# Altium schematic symbol library jlcpcb_2025_04_resistors_extended_1812.schlib: 557 symbols (part 5 of 9)
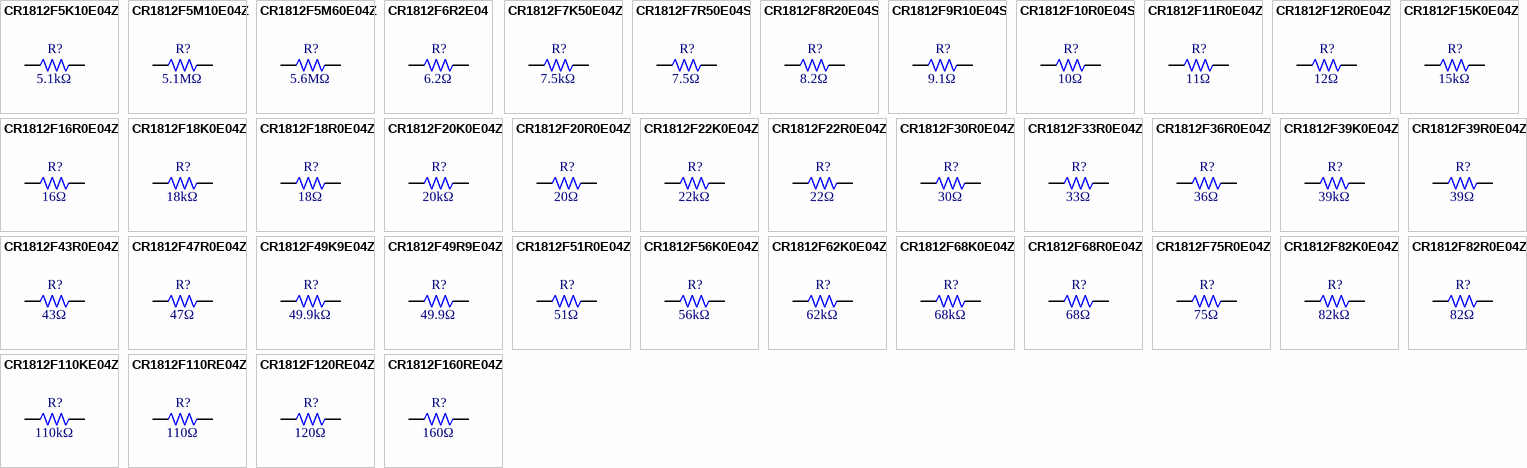
[diagram p17: symbols CR1812F5K10E04Z to CR1812F160RE04Z]

## CR1812F11R0E04Z
designator R?  Resistance: 11Ω  (hidden comment: *)
Resistor, 11Ω, ±1%, 500mW, 200V, ±100ppm/℃, -55℃~+155℃, SMD 1812; Manufacturer: Uniroyal; Manufacturer Part Number: CR1812F11R0E04Z; Supplier 1: LCSC; Supplier Part Number 1: C174698; JLCPCB Part Number: C174698; Power Rating: 500mW; Category: Resistors; Package Size: 1812; JLCPCB Basic Part: Yes; Tolerance: ±1%; Voltage Rating: 200V; Temperature Coefficient: ±100ppm/℃; Temperature Rating: -55℃~+155℃; ComponentLink1Description: Datasheet; ComponentLink1URL: https://wmsc.lcsc.com/wmsc/upload/file/pdf/v2/lcsc/2304140030_Ever-Ohms-Tech-CR1812F11R0E04Z_C174698.pdf; ComponentLink2Description: JLCPCB Part URL; ComponentLink2URL: https://jlcpcb.com/partdetail/C174698
pins: 1, 2
1 alternate drawing of the same symbol

## CR1812F12R0E04Z
designator R?  Resistance: 12Ω  (hidden comment: *)
Resistor, 12Ω, ±1%, 500mW, 200V, ±100ppm/℃, -55℃~+155℃, SMD 1812; Manufacturer: Uniroyal; Manufacturer Part Number: CR1812F12R0E04Z; Supplier 1: LCSC; Supplier Part Number 1: C174699; JLCPCB Part Number: C174699; Power Rating: 500mW; Category: Resistors; Package Size: 1812; JLCPCB Basic Part: Yes; Tolerance: ±1%; Voltage Rating: 200V; Temperature Coefficient: ±100ppm/℃; Temperature Rating: -55℃~+155℃; ComponentLink1Description: Datasheet; ComponentLink1URL: https://wmsc.lcsc.com/wmsc/upload/file/pdf/v2/lcsc/2304140030_Ever-Ohms-Tech-CR1812F12R0E04Z_C174699.pdf; ComponentLink2Description: JLCPCB Part URL; ComponentLink2URL: https://jlcpcb.com/partdetail/C174699
pins: 1, 2
1 alternate drawing of the same symbol

## CR1812F15K0E04Z
designator R?  Resistance: 15kΩ  (hidden comment: *)
Resistor, 15kΩ, ±1%, 500mW, 200V, ±100ppm/℃, -55℃~+155℃, SMD 1812; Manufacturer: Uniroyal; Manufacturer Part Number: CR1812F15K0E04Z; Supplier 1: LCSC; Supplier Part Number 1: C174756; JLCPCB Part Number: C174756; Power Rating: 500mW; Category: Resistors; Package Size: 1812; JLCPCB Basic Part: Yes; Tolerance: ±1%; Voltage Rating: 200V; Temperature Coefficient: ±100ppm/℃; Temperature Rating: -55℃~+155℃; ComponentLink1Description: Datasheet; ComponentLink1URL: https://wmsc.lcsc.com/wmsc/upload/file/pdf/v2/lcsc/2304140030_Ever-Ohms-Tech-CR1812F15K0E04Z_C174756.pdf; ComponentLink2Description: JLCPCB Part URL; ComponentLink2URL: https://jlcpcb.com/partdetail/C174756
pins: 1, 2
1 alternate drawing of the same symbol

## CR1812F16R0E04Z
designator R?  Resistance: 16Ω  (hidden comment: *)
Resistor, 16Ω, ±1%, 500mW, 200V, ±100ppm/℃, -55℃~+155℃, SMD 1812; Manufacturer: Uniroyal; Manufacturer Part Number: CR1812F16R0E04Z; Supplier 1: LCSC; Supplier Part Number 1: C174701; JLCPCB Part Number: C174701; Power Rating: 500mW; Category: Resistors; Package Size: 1812; JLCPCB Basic Part: Yes; Tolerance: ±1%; Voltage Rating: 200V; Temperature Coefficient: ±100ppm/℃; Temperature Rating: -55℃~+155℃; ComponentLink1Description: Datasheet; ComponentLink1URL: https://wmsc.lcsc.com/wmsc/upload/file/pdf/v2/lcsc/2304140030_Ever-Ohms-Tech-CR1812F16R0E04Z_C174701.pdf; ComponentLink2Description: JLCPCB Part URL; ComponentLink2URL: https://jlcpcb.com/partdetail/C174701
pins: 1, 2
1 alternate drawing of the same symbol

## CR1812F18K0E04Z
designator R?  Resistance: 18kΩ  (hidden comment: *)
Resistor, 18kΩ, ±1%, 500mW, 200V, ±100ppm/℃, -55℃~+155℃, SMD 1812; Manufacturer: Uniroyal; Manufacturer Part Number: CR1812F18K0E04Z; Supplier 1: LCSC; Supplier Part Number 1: C174757; JLCPCB Part Number: C174757; Power Rating: 500mW; Category: Resistors; Package Size: 1812; JLCPCB Basic Part: Yes; Tolerance: ±1%; Voltage Rating: 200V; Temperature Coefficient: ±100ppm/℃; Temperature Rating: -55℃~+155℃; ComponentLink1Description: Datasheet; ComponentLink1URL: https://wmsc.lcsc.com/wmsc/upload/file/pdf/v2/lcsc/2304140030_Ever-Ohms-Tech-CR1812F18K0E04Z_C174757.pdf; ComponentLink2Description: JLCPCB Part URL; ComponentLink2URL: https://jlcpcb.com/partdetail/C174757
pins: 1, 2
1 alternate drawing of the same symbol

## CR1812F18R0E04Z
designator R?  Resistance: 18Ω  (hidden comment: *)
Resistor, 18Ω, ±1%, 500mW, 200V, ±100ppm/℃, -55℃~+155℃, SMD 1812; Manufacturer: Uniroyal; Manufacturer Part Number: CR1812F18R0E04Z; Supplier 1: LCSC; Supplier Part Number 1: C174702; JLCPCB Part Number: C174702; Power Rating: 500mW; Category: Resistors; Package Size: 1812; JLCPCB Basic Part: Yes; Tolerance: ±1%; Voltage Rating: 200V; Temperature Coefficient: ±100ppm/℃; Temperature Rating: -55℃~+155℃; ComponentLink1Description: Datasheet; ComponentLink1URL: https://wmsc.lcsc.com/wmsc/upload/file/pdf/v2/lcsc/2304140030_Ever-Ohms-Tech-CR1812F18R0E04Z_C174702.pdf; ComponentLink2Description: JLCPCB Part URL; ComponentLink2URL: https://jlcpcb.com/partdetail/C174702
pins: 1, 2
1 alternate drawing of the same symbol

## CR1812F20K0E04Z
designator R?  Resistance: 20kΩ  (hidden comment: *)
Resistor, 20kΩ, ±1%, 500mW, 200V, ±100ppm/℃, -55℃~+155℃, SMD 1812; Manufacturer: Uniroyal; Manufacturer Part Number: CR1812F20K0E04Z; Supplier 1: LCSC; Supplier Part Number 1: C146972; JLCPCB Part Number: C146972; Power Rating: 500mW; Category: Resistors; Package Size: 1812; JLCPCB Basic Part: Yes; Tolerance: ±1%; Voltage Rating: 200V; Temperature Coefficient: ±100ppm/℃; Temperature Rating: -55℃~+155℃; ComponentLink1Description: Datasheet; ComponentLink1URL: https://wmsc.lcsc.com/wmsc/upload/file/pdf/v2/lcsc/2304140030_Ever-Ohms-Tech-CR1812F20K0E04Z_C146972.pdf; ComponentLink2Description: JLCPCB Part URL; ComponentLink2URL: https://jlcpcb.com/partdetail/C146972
pins: 1, 2
1 alternate drawing of the same symbol

## CR1812F20R0E04Z
designator R?  Resistance: 20Ω  (hidden comment: *)
Resistor, 20Ω, ±1%, 500mW, 200V, ±100ppm/℃, -55℃~+155℃, SMD 1812; Manufacturer: Uniroyal; Manufacturer Part Number: CR1812F20R0E04Z; Supplier 1: LCSC; Supplier Part Number 1: C149823; JLCPCB Part Number: C149823; Power Rating: 500mW; Category: Resistors; Package Size: 1812; JLCPCB Basic Part: Yes; Tolerance: ±1%; Voltage Rating: 200V; Temperature Coefficient: ±100ppm/℃; Temperature Rating: -55℃~+155℃; ComponentLink1Description: Datasheet; ComponentLink1URL: https://wmsc.lcsc.com/wmsc/upload/file/pdf/v2/lcsc/2304140030_Ever-Ohms-Tech-CR1812F20R0E04Z_C149823.pdf; ComponentLink2Description: JLCPCB Part URL; ComponentLink2URL: https://jlcpcb.com/partdetail/C149823
pins: 1, 2
1 alternate drawing of the same symbol

## CR1812F22K0E04Z
designator R?  Resistance: 22kΩ  (hidden comment: *)
Resistor, 22kΩ, ±1%, 500mW, 200V, ±100ppm/℃, -55℃~+155℃, SMD 1812; Manufacturer: Uniroyal; Manufacturer Part Number: CR1812F22K0E04Z; Supplier 1: LCSC; Supplier Part Number 1: C174758; JLCPCB Part Number: C174758; Power Rating: 500mW; Category: Resistors; Package Size: 1812; JLCPCB Basic Part: Yes; Tolerance: ±1%; Voltage Rating: 200V; Temperature Coefficient: ±100ppm/℃; Temperature Rating: -55℃~+155℃; ComponentLink1Description: Datasheet; ComponentLink1URL: https://wmsc.lcsc.com/wmsc/upload/file/pdf/v2/lcsc/2304140030_Ever-Ohms-Tech-CR1812F22K0E04Z_C174758.pdf; ComponentLink2Description: JLCPCB Part URL; ComponentLink2URL: https://jlcpcb.com/partdetail/C174758
pins: 1, 2
1 alternate drawing of the same symbol

## CR1812F22R0E04Z
designator R?  Resistance: 22Ω  (hidden comment: *)
Resistor, 22Ω, ±1%, 500mW, 200V, ±100ppm/℃, -55℃~+155℃, SMD 1812; Manufacturer: Uniroyal; Manufacturer Part Number: CR1812F22R0E04Z; Supplier 1: LCSC; Supplier Part Number 1: C174703; JLCPCB Part Number: C174703; Power Rating: 500mW; Category: Resistors; Package Size: 1812; JLCPCB Basic Part: Yes; Tolerance: ±1%; Voltage Rating: 200V; Temperature Coefficient: ±100ppm/℃; Temperature Rating: -55℃~+155℃; ComponentLink1Description: Datasheet; ComponentLink1URL: https://wmsc.lcsc.com/wmsc/upload/file/pdf/v2/lcsc/2304140030_Ever-Ohms-Tech-CR1812F22R0E04Z_C174703.pdf; ComponentLink2Description: JLCPCB Part URL; ComponentLink2URL: https://jlcpcb.com/partdetail/C174703
pins: 1, 2
1 alternate drawing of the same symbol

## CR1812F30R0E04Z
designator R?  Resistance: 30Ω  (hidden comment: *)
Resistor, 30Ω, ±1%, 500mW, 200V, ±100ppm/℃, -55℃~+155℃, SMD 1812; Manufacturer: Uniroyal; Manufacturer Part Number: CR1812F30R0E04Z; Supplier 1: LCSC; Supplier Part Number 1: C174706; JLCPCB Part Number: C174706; Power Rating: 500mW; Category: Resistors; Package Size: 1812; JLCPCB Basic Part: Yes; Tolerance: ±1%; Voltage Rating: 200V; Temperature Coefficient: ±100ppm/℃; Temperature Rating: -55℃~+155℃; ComponentLink1Description: Datasheet; ComponentLink1URL: https://wmsc.lcsc.com/wmsc/upload/file/pdf/v2/lcsc/2304140030_Ever-Ohms-Tech-CR1812F30R0E04Z_C174706.pdf; ComponentLink2Description: JLCPCB Part URL; ComponentLink2URL: https://jlcpcb.com/partdetail/C174706
pins: 1, 2
1 alternate drawing of the same symbol

## CR1812F33R0E04Z
designator R?  Resistance: 33Ω  (hidden comment: *)
Resistor, 33Ω, ±1%, 500mW, 200V, ±100ppm/℃, -55℃~+155℃, SMD 1812; Manufacturer: Uniroyal; Manufacturer Part Number: CR1812F33R0E04Z; Supplier 1: LCSC; Supplier Part Number 1: C174707; JLCPCB Part Number: C174707; Power Rating: 500mW; Category: Resistors; Package Size: 1812; JLCPCB Basic Part: Yes; Tolerance: ±1%; Voltage Rating: 200V; Temperature Coefficient: ±100ppm/℃; Temperature Rating: -55℃~+155℃; ComponentLink1Description: Datasheet; ComponentLink1URL: https://wmsc.lcsc.com/wmsc/upload/file/pdf/v2/lcsc/2304140030_Ever-Ohms-Tech-CR1812F33R0E04Z_C174707.pdf; ComponentLink2Description: JLCPCB Part URL; ComponentLink2URL: https://jlcpcb.com/partdetail/C174707
pins: 1, 2
1 alternate drawing of the same symbol

## CR1812F36R0E04Z
designator R?  Resistance: 36Ω  (hidden comment: *)
Resistor, 36Ω, ±1%, 500mW, 200V, ±100ppm/℃, -55℃~+155℃, SMD 1812; Manufacturer: Uniroyal; Manufacturer Part Number: CR1812F36R0E04Z; Supplier 1: LCSC; Supplier Part Number 1: C174708; JLCPCB Part Number: C174708; Power Rating: 500mW; Category: Resistors; Package Size: 1812; JLCPCB Basic Part: Yes; Tolerance: ±1%; Voltage Rating: 200V; Temperature Coefficient: ±100ppm/℃; Temperature Rating: -55℃~+155℃; ComponentLink1Description: Datasheet; ComponentLink1URL: https://wmsc.lcsc.com/wmsc/upload/file/pdf/v2/lcsc/2304140030_Ever-Ohms-Tech-CR1812F36R0E04Z_C174708.pdf; ComponentLink2Description: JLCPCB Part URL; ComponentLink2URL: https://jlcpcb.com/partdetail/C174708
pins: 1, 2
1 alternate drawing of the same symbol

## CR1812F39K0E04Z
designator R?  Resistance: 39kΩ  (hidden comment: *)
Resistor, 39kΩ, ±1%, 500mW, 200V, ±100ppm/℃, -55℃~+155℃, SMD 1812; Manufacturer: Uniroyal; Manufacturer Part Number: CR1812F39K0E04Z; Supplier 1: LCSC; Supplier Part Number 1: C174765; JLCPCB Part Number: C174765; Power Rating: 500mW; Category: Resistors; Package Size: 1812; JLCPCB Basic Part: Yes; Tolerance: ±1%; Voltage Rating: 200V; Temperature Coefficient: ±100ppm/℃; Temperature Rating: -55℃~+155℃; ComponentLink1Description: Datasheet; ComponentLink1URL: https://wmsc.lcsc.com/wmsc/upload/file/pdf/v2/lcsc/2304140030_Ever-Ohms-Tech-CR1812F39K0E04Z_C174765.pdf; ComponentLink2Description: JLCPCB Part URL; ComponentLink2URL: https://jlcpcb.com/partdetail/C174765
pins: 1, 2
1 alternate drawing of the same symbol

## CR1812F39R0E04Z
designator R?  Resistance: 39Ω  (hidden comment: *)
Resistor, 39Ω, ±1%, 500mW, 200V, ±100ppm/℃, -55℃~+155℃, SMD 1812; Manufacturer: Uniroyal; Manufacturer Part Number: CR1812F39R0E04Z; Supplier 1: LCSC; Supplier Part Number 1: C174709; JLCPCB Part Number: C174709; Power Rating: 500mW; Category: Resistors; Package Size: 1812; JLCPCB Basic Part: Yes; Tolerance: ±1%; Voltage Rating: 200V; Temperature Coefficient: ±100ppm/℃; Temperature Rating: -55℃~+155℃; ComponentLink1Description: Datasheet; ComponentLink1URL: https://wmsc.lcsc.com/wmsc/upload/file/pdf/v2/lcsc/2304140030_Ever-Ohms-Tech-CR1812F39R0E04Z_C174709.pdf; ComponentLink2Description: JLCPCB Part URL; ComponentLink2URL: https://jlcpcb.com/partdetail/C174709
pins: 1, 2
1 alternate drawing of the same symbol

## CR1812F43R0E04Z
designator R?  Resistance: 43Ω  (hidden comment: *)
Resistor, 43Ω, ±1%, 500mW, 200V, ±100ppm/℃, -55℃~+155℃, SMD 1812; Manufacturer: Uniroyal; Manufacturer Part Number: CR1812F43R0E04Z; Supplier 1: LCSC; Supplier Part Number 1: C174710; JLCPCB Part Number: C174710; Power Rating: 500mW; Category: Resistors; Package Size: 1812; JLCPCB Basic Part: Yes; Tolerance: ±1%; Voltage Rating: 200V; Temperature Coefficient: ±100ppm/℃; Temperature Rating: -55℃~+155℃; ComponentLink1Description: Datasheet; ComponentLink1URL: https://wmsc.lcsc.com/wmsc/upload/file/pdf/v2/lcsc/2304140030_Ever-Ohms-Tech-CR1812F43R0E04Z_C174710.pdf; ComponentLink2Description: JLCPCB Part URL; ComponentLink2URL: https://jlcpcb.com/partdetail/C174710
pins: 1, 2
1 alternate drawing of the same symbol

## CR1812F47R0E04Z
designator R?  Resistance: 47Ω  (hidden comment: *)
Resistor, 47Ω, ±1%, 500mW, 200V, ±100ppm/℃, -55℃~+155℃, SMD 1812; Manufacturer: Uniroyal; Manufacturer Part Number: CR1812F47R0E04Z; Supplier 1: LCSC; Supplier Part Number 1: C174711; JLCPCB Part Number: C174711; Power Rating: 500mW; Category: Resistors; Package Size: 1812; JLCPCB Basic Part: Yes; Tolerance: ±1%; Voltage Rating: 200V; Temperature Coefficient: ±100ppm/℃; Temperature Rating: -55℃~+155℃; ComponentLink1Description: Datasheet; ComponentLink1URL: https://wmsc.lcsc.com/wmsc/upload/file/pdf/v2/lcsc/2304140030_Ever-Ohms-Tech-CR1812F47R0E04Z_C174711.pdf; ComponentLink2Description: JLCPCB Part URL; ComponentLink2URL: https://jlcpcb.com/partdetail/C174711
pins: 1, 2
1 alternate drawing of the same symbol

## CR1812F49K9E04Z
designator R?  Resistance: 49.9kΩ  (hidden comment: *)
Resistor, 49.9kΩ, ±1%, 500mW, 200V, ±100ppm/℃, -55℃~+155℃, SMD 1812; Manufacturer: Uniroyal; Manufacturer Part Number: CR1812F49K9E04Z; Supplier 1: LCSC; Supplier Part Number 1: C332126; JLCPCB Part Number: C332126; Power Rating: 500mW; Category: Resistors; Package Size: 1812; JLCPCB Basic Part: Yes; Tolerance: ±1%; Voltage Rating: 200V; Temperature Coefficient: ±100ppm/℃; Temperature Rating: -55℃~+155℃; ComponentLink1Description: Datasheet; ComponentLink1URL: https://wmsc.lcsc.com/wmsc/upload/file/pdf/v2/lcsc/2304140030_Ever-Ohms-Tech-CR1812F49K9E04Z_C332126.pdf; ComponentLink2Description: JLCPCB Part URL; ComponentLink2URL: https://jlcpcb.com/partdetail/C332126
pins: 1, 2
1 alternate drawing of the same symbol

## CR1812F49R9E04Z
designator R?  Resistance: 49.9Ω  (hidden comment: *)
Resistor, 49.9Ω, ±1%, 500mW, 200V, ±100ppm/℃, -55℃~+155℃, SMD 1812; Manufacturer: Uniroyal; Manufacturer Part Number: CR1812F49R9E04Z; Supplier 1: LCSC; Supplier Part Number 1: C174712; JLCPCB Part Number: C174712; Power Rating: 500mW; Category: Resistors; Package Size: 1812; JLCPCB Basic Part: Yes; Tolerance: ±1%; Voltage Rating: 200V; Temperature Coefficient: ±100ppm/℃; Temperature Rating: -55℃~+155℃; ComponentLink1Description: Datasheet; ComponentLink1URL: https://wmsc.lcsc.com/wmsc/upload/file/pdf/v2/lcsc/2304140030_Ever-Ohms-Tech-CR1812F49R9E04Z_C174712.pdf; ComponentLink2Description: JLCPCB Part URL; ComponentLink2URL: https://jlcpcb.com/partdetail/C174712
pins: 1, 2
1 alternate drawing of the same symbol

## CR1812F51R0E04Z
designator R?  Resistance: 51Ω  (hidden comment: *)
Resistor, 51Ω, ±1%, 500mW, 200V, ±100ppm/℃, -55℃~+155℃, SMD 1812; Manufacturer: Uniroyal; Manufacturer Part Number: CR1812F51R0E04Z; Supplier 1: LCSC; Supplier Part Number 1: C149825; JLCPCB Part Number: C149825; Power Rating: 500mW; Category: Resistors; Package Size: 1812; JLCPCB Basic Part: Yes; Tolerance: ±1%; Voltage Rating: 200V; Temperature Coefficient: ±100ppm/℃; Temperature Rating: -55℃~+155℃; ComponentLink1Description: Datasheet; ComponentLink1URL: https://wmsc.lcsc.com/wmsc/upload/file/pdf/v2/lcsc/2304140030_Ever-Ohms-Tech-CR1812F51R0E04Z_C149825.pdf; ComponentLink2Description: JLCPCB Part URL; ComponentLink2URL: https://jlcpcb.com/partdetail/C149825
pins: 1, 2
1 alternate drawing of the same symbol

## CR1812F56K0E04Z
designator R?  Resistance: 56kΩ  (hidden comment: *)
Resistor, 56kΩ, ±1%, 750mW, 200V, ±100ppm/℃, -55℃~+155℃, SMD 1812; Manufacturer: Uniroyal; Manufacturer Part Number: CR1812F56K0E04Z; Supplier 1: LCSC; Supplier Part Number 1: C171430; JLCPCB Part Number: C171430; Power Rating: 750mW; Category: Resistors; Package Size: 1812; JLCPCB Basic Part: Yes; Tolerance: ±1%; Voltage Rating: 200V; Temperature Coefficient: ±100ppm/℃; Temperature Rating: -55℃~+155℃; ComponentLink1Description: Datasheet; ComponentLink1URL: https://wmsc.lcsc.com/wmsc/upload/file/pdf/v2/lcsc/2304140030_Ever-Ohms-Tech-CR1812F56K0E04Z_C171430.pdf; ComponentLink2Description: JLCPCB Part URL; ComponentLink2URL: https://jlcpcb.com/partdetail/C171430
pins: 1, 2
1 alternate drawing of the same symbol

## CR1812F62K0E04Z
designator R?  Resistance: 62kΩ  (hidden comment: *)
Resistor, 62kΩ, ±1%, 500mW, 200V, ±100ppm/℃, -55℃~+155℃, SMD 1812; Manufacturer: Uniroyal; Manufacturer Part Number: CR1812F62K0E04Z; Supplier 1: LCSC; Supplier Part Number 1: C174768; JLCPCB Part Number: C174768; Power Rating: 500mW; Category: Resistors; Package Size: 1812; JLCPCB Basic Part: Yes; Tolerance: ±1%; Voltage Rating: 200V; Temperature Coefficient: ±100ppm/℃; Temperature Rating: -55℃~+155℃; ComponentLink1Description: Datasheet; ComponentLink1URL: https://wmsc.lcsc.com/wmsc/upload/file/pdf/v2/lcsc/2304140030_Ever-Ohms-Tech-CR1812F62K0E04Z_C174768.pdf; ComponentLink2Description: JLCPCB Part URL; ComponentLink2URL: https://jlcpcb.com/partdetail/C174768
pins: 1, 2
1 alternate drawing of the same symbol

## CR1812F68K0E04Z
designator R?  Resistance: 68kΩ  (hidden comment: *)
Resistor, 68kΩ, ±1%, 500mW, 200V, ±100ppm/℃, -55℃~+155℃, SMD 1812; Manufacturer: Uniroyal; Manufacturer Part Number: CR1812F68K0E04Z; Supplier 1: LCSC; Supplier Part Number 1: C174769; JLCPCB Part Number: C174769; Power Rating: 500mW; Category: Resistors; Package Size: 1812; JLCPCB Basic Part: Yes; Tolerance: ±1%; Voltage Rating: 200V; Temperature Coefficient: ±100ppm/℃; Temperature Rating: -55℃~+155℃; ComponentLink1Description: Datasheet; ComponentLink1URL: https://wmsc.lcsc.com/wmsc/upload/file/pdf/v2/lcsc/2304140030_Ever-Ohms-Tech-CR1812F68K0E04Z_C174769.pdf; ComponentLink2Description: JLCPCB Part URL; ComponentLink2URL: https://jlcpcb.com/partdetail/C174769
pins: 1, 2
1 alternate drawing of the same symbol

## CR1812F68R0E04Z
designator R?  Resistance: 68Ω  (hidden comment: *)
Resistor, 68Ω, ±1%, 500mW, 200V, ±100ppm/℃, -55℃~+155℃, SMD 1812; Manufacturer: Uniroyal; Manufacturer Part Number: CR1812F68R0E04Z; Supplier 1: LCSC; Supplier Part Number 1: C149827; JLCPCB Part Number: C149827; Power Rating: 500mW; Category: Resistors; Package Size: 1812; JLCPCB Basic Part: Yes; Tolerance: ±1%; Voltage Rating: 200V; Temperature Coefficient: ±100ppm/℃; Temperature Rating: -55℃~+155℃; ComponentLink1Description: Datasheet; ComponentLink1URL: https://wmsc.lcsc.com/wmsc/upload/file/pdf/v2/lcsc/2304140030_Ever-Ohms-Tech-CR1812F68R0E04Z_C149827.pdf; ComponentLink2Description: JLCPCB Part URL; ComponentLink2URL: https://jlcpcb.com/partdetail/C149827
pins: 1, 2
1 alternate drawing of the same symbol

## CR1812F75R0E04Z
designator R?  Resistance: 75Ω  (hidden comment: *)
Resistor, 75Ω, ±1%, 500mW, 200V, ±100ppm/℃, -55℃~+155℃, SMD 1812; Manufacturer: Uniroyal; Manufacturer Part Number: CR1812F75R0E04Z; Supplier 1: LCSC; Supplier Part Number 1: C174716; JLCPCB Part Number: C174716; Power Rating: 500mW; Category: Resistors; Package Size: 1812; JLCPCB Basic Part: Yes; Tolerance: ±1%; Voltage Rating: 200V; Temperature Coefficient: ±100ppm/℃; Temperature Rating: -55℃~+155℃; ComponentLink1Description: Datasheet; ComponentLink1URL: https://wmsc.lcsc.com/wmsc/upload/file/pdf/v2/lcsc/2304140030_Ever-Ohms-Tech-CR1812F75R0E04Z_C174716.pdf; ComponentLink2Description: JLCPCB Part URL; ComponentLink2URL: https://jlcpcb.com/partdetail/C174716
pins: 1, 2
1 alternate drawing of the same symbol

## CR1812F82K0E04Z
designator R?  Resistance: 82kΩ  (hidden comment: *)
Resistor, 82kΩ, ±1%, 500mW, 200V, ±100ppm/℃, -55℃~+155℃, SMD 1812; Manufacturer: Uniroyal; Manufacturer Part Number: CR1812F82K0E04Z; Supplier 1: LCSC; Supplier Part Number 1: C174771; JLCPCB Part Number: C174771; Power Rating: 500mW; Category: Resistors; Package Size: 1812; JLCPCB Basic Part: Yes; Tolerance: ±1%; Voltage Rating: 200V; Temperature Coefficient: ±100ppm/℃; Temperature Rating: -55℃~+155℃; ComponentLink1Description: Datasheet; ComponentLink1URL: https://wmsc.lcsc.com/wmsc/upload/file/pdf/v2/lcsc/2304140030_Ever-Ohms-Tech-CR1812F82K0E04Z_C174771.pdf; ComponentLink2Description: JLCPCB Part URL; ComponentLink2URL: https://jlcpcb.com/partdetail/C174771
pins: 1, 2
1 alternate drawing of the same symbol

## CR1812F82R0E04Z
designator R?  Resistance: 82Ω  (hidden comment: *)
Resistor, 82Ω, ±1%, 500mW, 200V, ±100ppm/℃, -55℃~+155℃, SMD 1812; Manufacturer: Uniroyal; Manufacturer Part Number: CR1812F82R0E04Z; Supplier 1: LCSC; Supplier Part Number 1: C174717; JLCPCB Part Number: C174717; Power Rating: 500mW; Category: Resistors; Package Size: 1812; JLCPCB Basic Part: Yes; Tolerance: ±1%; Voltage Rating: 200V; Temperature Coefficient: ±100ppm/℃; Temperature Rating: -55℃~+155℃; ComponentLink1Description: Datasheet; ComponentLink1URL: https://wmsc.lcsc.com/wmsc/upload/file/pdf/v2/lcsc/2304140030_Ever-Ohms-Tech-CR1812F82R0E04Z_C174717.pdf; ComponentLink2Description: JLCPCB Part URL; ComponentLink2URL: https://jlcpcb.com/partdetail/C174717
pins: 1, 2
1 alternate drawing of the same symbol

## CR1812F110KE04Z
designator R?  Resistance: 110kΩ  (hidden comment: *)
Resistor, 110kΩ, ±1%, 500mW, 200V, ±100ppm/℃, -55℃~+155℃, SMD 1812; Manufacturer: Uniroyal; Manufacturer Part Number: CR1812F110KE04Z; Supplier 1: LCSC; Supplier Part Number 1: C174773; JLCPCB Part Number: C174773; Power Rating: 500mW; Category: Resistors; Package Size: 1812; JLCPCB Basic Part: Yes; Tolerance: ±1%; Voltage Rating: 200V; Temperature Coefficient: ±100ppm/℃; Temperature Rating: -55℃~+155℃; ComponentLink1Description: Datasheet; ComponentLink1URL: https://wmsc.lcsc.com/wmsc/upload/file/pdf/v2/lcsc/2304140030_Ever-Ohms-Tech-CR1812F110KE04Z_C174773.pdf; ComponentLink2Description: JLCPCB Part URL; ComponentLink2URL: https://jlcpcb.com/partdetail/C174773
pins: 1, 2
1 alternate drawing of the same symbol

## CR1812F110RE04Z
designator R?  Resistance: 110Ω  (hidden comment: *)
Resistor, 110Ω, ±1%, 500mW, 200V, ±100ppm/℃, -55℃~+155℃, SMD 1812; Manufacturer: Uniroyal; Manufacturer Part Number: CR1812F110RE04Z; Supplier 1: LCSC; Supplier Part Number 1: C174718; JLCPCB Part Number: C174718; Power Rating: 500mW; Category: Resistors; Package Size: 1812; JLCPCB Basic Part: Yes; Tolerance: ±1%; Voltage Rating: 200V; Temperature Coefficient: ±100ppm/℃; Temperature Rating: -55℃~+155℃; ComponentLink1Description: Datasheet; ComponentLink1URL: https://wmsc.lcsc.com/wmsc/upload/file/pdf/v2/lcsc/2304140030_Ever-Ohms-Tech-CR1812F110RE04Z_C174718.pdf; ComponentLink2Description: JLCPCB Part URL; ComponentLink2URL: https://jlcpcb.com/partdetail/C174718
pins: 1, 2
1 alternate drawing of the same symbol

## CR1812F120RE04Z
designator R?  Resistance: 120Ω  (hidden comment: *)
Resistor, 120Ω, ±1%, 500mW, 200V, ±100ppm/℃, -55℃~+155℃, SMD 1812; Manufacturer: Uniroyal; Manufacturer Part Number: CR1812F120RE04Z; Supplier 1: LCSC; Supplier Part Number 1: C149820; JLCPCB Part Number: C149820; Power Rating: 500mW; Category: Resistors; Package Size: 1812; JLCPCB Basic Part: Yes; Tolerance: ±1%; Voltage Rating: 200V; Temperature Coefficient: ±100ppm/℃; Temperature Rating: -55℃~+155℃; ComponentLink1Description: Datasheet; ComponentLink1URL: https://wmsc.lcsc.com/wmsc/upload/file/pdf/v2/lcsc/2304140030_Ever-Ohms-Tech-CR1812F120RE04Z_C149820.pdf; ComponentLink2Description: JLCPCB Part URL; ComponentLink2URL: https://jlcpcb.com/partdetail/C149820
pins: 1, 2
1 alternate drawing of the same symbol

## CR1812F160RE04Z
designator R?  Resistance: 160Ω  (hidden comment: *)
Resistor, 160Ω, ±1%, 500mW, 200V, ±100ppm/℃, -55℃~+155℃, SMD 1812; Manufacturer: Uniroyal; Manufacturer Part Number: CR1812F160RE04Z; Supplier 1: LCSC; Supplier Part Number 1: C174720; JLCPCB Part Number: C174720; Power Rating: 500mW; Category: Resistors; Package Size: 1812; JLCPCB Basic Part: Yes; Tolerance: ±1%; Voltage Rating: 200V; Temperature Coefficient: ±100ppm/℃; Temperature Rating: -55℃~+155℃; ComponentLink1Description: Datasheet; ComponentLink1URL: https://wmsc.lcsc.com/wmsc/upload/file/pdf/v2/lcsc/2304140030_Ever-Ohms-Tech-CR1812F160RE04Z_C174720.pdf; ComponentLink2Description: JLCPCB Part URL; ComponentLink2URL: https://jlcpcb.com/partdetail/C174720
pins: 1, 2
1 alternate drawing of the same symbol

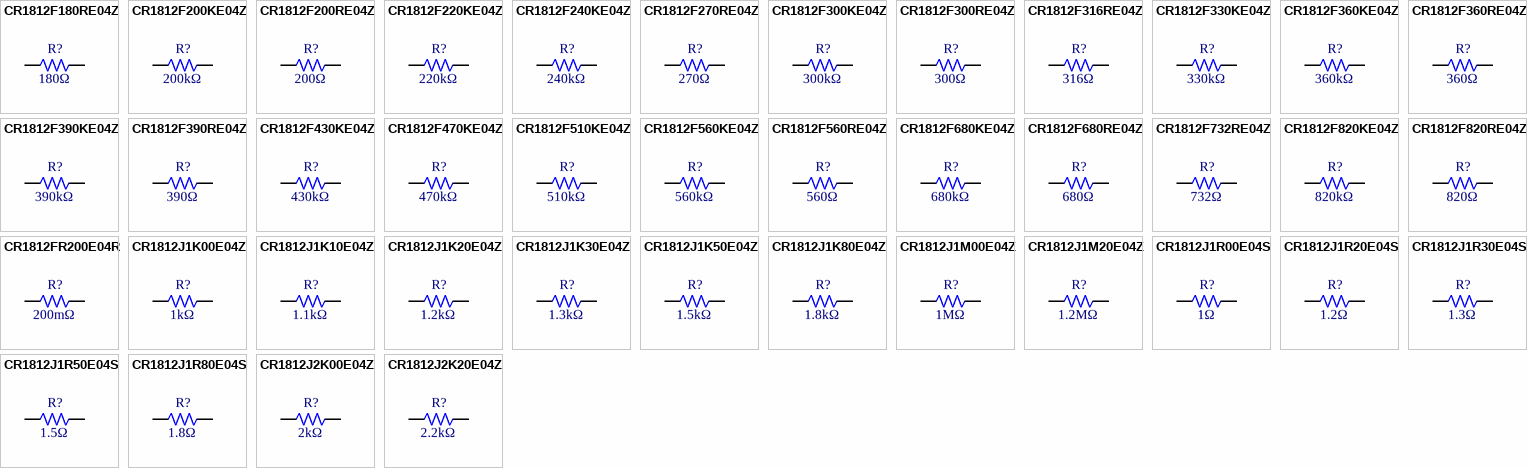
[diagram p7: symbols CR1812F180RE04Z to CR1812J2K20E04Z]

## CR1812F180RE04Z
designator R?  Resistance: 180Ω  (hidden comment: *)
Resistor, 180Ω, ±1%, 500mW, 200V, ±100ppm/℃, -55℃~+155℃, SMD 1812; Manufacturer: Uniroyal; Manufacturer Part Number: CR1812F180RE04Z; Supplier 1: LCSC; Supplier Part Number 1: C174721; JLCPCB Part Number: C174721; Power Rating: 500mW; Category: Resistors; Package Size: 1812; JLCPCB Basic Part: Yes; Tolerance: ±1%; Voltage Rating: 200V; Temperature Coefficient: ±100ppm/℃; Temperature Rating: -55℃~+155℃; ComponentLink1Description: Datasheet; ComponentLink1URL: https://wmsc.lcsc.com/wmsc/upload/file/pdf/v2/lcsc/2304140030_Ever-Ohms-Tech-CR1812F180RE04Z_C174721.pdf; ComponentLink2Description: JLCPCB Part URL; ComponentLink2URL: https://jlcpcb.com/partdetail/C174721
pins: 1, 2
1 alternate drawing of the same symbol

## CR1812F200KE04Z
designator R?  Resistance: 200kΩ  (hidden comment: *)
Resistor, 200kΩ, ±1%, 500mW, 200V, ±100ppm/℃, -55℃~+155℃, SMD 1812; Manufacturer: Uniroyal; Manufacturer Part Number: CR1812F200KE04Z; Supplier 1: LCSC; Supplier Part Number 1: C174777; JLCPCB Part Number: C174777; Power Rating: 500mW; Category: Resistors; Package Size: 1812; JLCPCB Basic Part: Yes; Tolerance: ±1%; Voltage Rating: 200V; Temperature Coefficient: ±100ppm/℃; Temperature Rating: -55℃~+155℃; ComponentLink1Description: Datasheet; ComponentLink1URL: https://wmsc.lcsc.com/wmsc/upload/file/pdf/v2/lcsc/2304140030_Ever-Ohms-Tech-CR1812F200KE04Z_C174777.pdf; ComponentLink2Description: JLCPCB Part URL; ComponentLink2URL: https://jlcpcb.com/partdetail/C174777
pins: 1, 2
1 alternate drawing of the same symbol

## CR1812F200RE04Z
designator R?  Resistance: 200Ω  (hidden comment: *)
Resistor, 200Ω, ±1%, 500mW, 200V, ±100ppm/℃, -55℃~+155℃, SMD 1812; Manufacturer: Uniroyal; Manufacturer Part Number: CR1812F200RE04Z; Supplier 1: LCSC; Supplier Part Number 1: C147174; JLCPCB Part Number: C147174; Power Rating: 500mW; Category: Resistors; Package Size: 1812; JLCPCB Basic Part: Yes; Tolerance: ±1%; Voltage Rating: 200V; Temperature Coefficient: ±100ppm/℃; Temperature Rating: -55℃~+155℃; ComponentLink1Description: Datasheet; ComponentLink1URL: https://wmsc.lcsc.com/wmsc/upload/file/pdf/v2/lcsc/2304140030_Ever-Ohms-Tech-CR1812F200RE04Z_C147174.pdf; ComponentLink2Description: JLCPCB Part URL; ComponentLink2URL: https://jlcpcb.com/partdetail/C147174
pins: 1, 2
1 alternate drawing of the same symbol

## CR1812F220KE04Z
designator R?  Resistance: 220kΩ  (hidden comment: *)
Resistor, 220kΩ, ±1%, 500mW, 200V, ±100ppm/℃, -55℃~+155℃, SMD 1812; Manufacturer: Uniroyal; Manufacturer Part Number: CR1812F220KE04Z; Supplier 1: LCSC; Supplier Part Number 1: C174778; JLCPCB Part Number: C174778; Power Rating: 500mW; Category: Resistors; Package Size: 1812; JLCPCB Basic Part: Yes; Tolerance: ±1%; Voltage Rating: 200V; Temperature Coefficient: ±100ppm/℃; Temperature Rating: -55℃~+155℃; ComponentLink1Description: Datasheet; ComponentLink1URL: https://wmsc.lcsc.com/wmsc/upload/file/pdf/v2/lcsc/2304140030_Ever-Ohms-Tech-CR1812F220KE04Z_C174778.pdf; ComponentLink2Description: JLCPCB Part URL; ComponentLink2URL: https://jlcpcb.com/partdetail/C174778
pins: 1, 2
1 alternate drawing of the same symbol

## CR1812F240KE04Z
designator R?  Resistance: 240kΩ  (hidden comment: *)
Resistor, 240kΩ, ±1%, 500mW, 200V, ±100ppm/℃, -55℃~+155℃, SMD 1812; Manufacturer: Uniroyal; Manufacturer Part Number: CR1812F240KE04Z; Supplier 1: LCSC; Supplier Part Number 1: C174779; JLCPCB Part Number: C174779; Power Rating: 500mW; Category: Resistors; Package Size: 1812; JLCPCB Basic Part: Yes; Tolerance: ±1%; Voltage Rating: 200V; Temperature Coefficient: ±100ppm/℃; Temperature Rating: -55℃~+155℃; ComponentLink1Description: Datasheet; ComponentLink1URL: https://wmsc.lcsc.com/wmsc/upload/file/pdf/v2/lcsc/2304140030_Ever-Ohms-Tech-CR1812F240KE04Z_C174779.pdf; ComponentLink2Description: JLCPCB Part URL; ComponentLink2URL: https://jlcpcb.com/partdetail/C174779
pins: 1, 2
1 alternate drawing of the same symbol

## CR1812F270RE04Z
designator R?  Resistance: 270Ω  (hidden comment: *)
Resistor, 270Ω, ±1%, 500mW, 200V, ±100ppm/℃, -55℃~+155℃, SMD 1812; Manufacturer: Uniroyal; Manufacturer Part Number: CR1812F270RE04Z; Supplier 1: LCSC; Supplier Part Number 1: C149824; JLCPCB Part Number: C149824; Power Rating: 500mW; Category: Resistors; Package Size: 1812; JLCPCB Basic Part: Yes; Tolerance: ±1%; Voltage Rating: 200V; Temperature Coefficient: ±100ppm/℃; Temperature Rating: -55℃~+155℃; ComponentLink1Description: Datasheet; ComponentLink1URL: https://wmsc.lcsc.com/wmsc/upload/file/pdf/v2/lcsc/2304140030_Ever-Ohms-Tech-CR1812F270RE04Z_C149824.pdf; ComponentLink2Description: JLCPCB Part URL; ComponentLink2URL: https://jlcpcb.com/partdetail/C149824
pins: 1, 2
1 alternate drawing of the same symbol

## CR1812F300KE04Z
designator R?  Resistance: 300kΩ  (hidden comment: *)
Resistor, 300kΩ, ±1%, 500mW, 200V, ±100ppm/℃, -55℃~+155℃, SMD 1812; Manufacturer: Uniroyal; Manufacturer Part Number: CR1812F300KE04Z; Supplier 1: LCSC; Supplier Part Number 1: C174780; JLCPCB Part Number: C174780; Power Rating: 500mW; Category: Resistors; Package Size: 1812; JLCPCB Basic Part: Yes; Tolerance: ±1%; Voltage Rating: 200V; Temperature Coefficient: ±100ppm/℃; Temperature Rating: -55℃~+155℃; ComponentLink1Description: Datasheet; ComponentLink1URL: https://wmsc.lcsc.com/wmsc/upload/file/pdf/v2/lcsc/2304140030_Ever-Ohms-Tech-CR1812F300KE04Z_C174780.pdf; ComponentLink2Description: JLCPCB Part URL; ComponentLink2URL: https://jlcpcb.com/partdetail/C174780
pins: 1, 2
1 alternate drawing of the same symbol

## CR1812F300RE04Z
designator R?  Resistance: 300Ω  (hidden comment: *)
Resistor, 300Ω, ±1%, 500mW, 200V, ±100ppm/℃, -55℃~+155℃, SMD 1812; Manufacturer: Uniroyal; Manufacturer Part Number: CR1812F300RE04Z; Supplier 1: LCSC; Supplier Part Number 1: C174723; JLCPCB Part Number: C174723; Power Rating: 500mW; Category: Resistors; Package Size: 1812; JLCPCB Basic Part: Yes; Tolerance: ±1%; Voltage Rating: 200V; Temperature Coefficient: ±100ppm/℃; Temperature Rating: -55℃~+155℃; ComponentLink1Description: Datasheet; ComponentLink1URL: https://wmsc.lcsc.com/wmsc/upload/file/pdf/v2/lcsc/2304140030_Ever-Ohms-Tech-CR1812F300RE04Z_C174723.pdf; ComponentLink2Description: JLCPCB Part URL; ComponentLink2URL: https://jlcpcb.com/partdetail/C174723
pins: 1, 2
1 alternate drawing of the same symbol

## CR1812F316RE04Z
designator R?  Resistance: 316Ω  (hidden comment: *)
Resistor, 316Ω, ±1%, 500mW, 200V, ±100ppm/℃, -55℃~+155℃, SMD 1812; Manufacturer: Uniroyal; Manufacturer Part Number: CR1812F316RE04Z; Supplier 1: LCSC; Supplier Part Number 1: C174724; JLCPCB Part Number: C174724; Power Rating: 500mW; Category: Resistors; Package Size: 1812; JLCPCB Basic Part: Yes; Tolerance: ±1%; Voltage Rating: 200V; Temperature Coefficient: ±100ppm/℃; Temperature Rating: -55℃~+155℃; ComponentLink1Description: Datasheet; ComponentLink1URL: https://wmsc.lcsc.com/wmsc/upload/file/pdf/v2/lcsc/2304140030_Ever-Ohms-Tech-CR1812F316RE04Z_C174724.pdf; ComponentLink2Description: JLCPCB Part URL; ComponentLink2URL: https://jlcpcb.com/partdetail/C174724
pins: 1, 2
1 alternate drawing of the same symbol

## CR1812F330KE04Z
designator R?  Resistance: 330kΩ  (hidden comment: *)
Resistor, 330kΩ, ±1%, 500mW, 200V, ±100ppm/℃, -55℃~+155℃, SMD 1812; Manufacturer: Uniroyal; Manufacturer Part Number: CR1812F330KE04Z; Supplier 1: LCSC; Supplier Part Number 1: C174781; JLCPCB Part Number: C174781; Power Rating: 500mW; Category: Resistors; Package Size: 1812; JLCPCB Basic Part: Yes; Tolerance: ±1%; Voltage Rating: 200V; Temperature Coefficient: ±100ppm/℃; Temperature Rating: -55℃~+155℃; ComponentLink1Description: Datasheet; ComponentLink1URL: https://wmsc.lcsc.com/wmsc/upload/file/pdf/v2/lcsc/2304140030_Ever-Ohms-Tech-CR1812F330KE04Z_C174781.pdf; ComponentLink2Description: JLCPCB Part URL; ComponentLink2URL: https://jlcpcb.com/partdetail/C174781
pins: 1, 2
1 alternate drawing of the same symbol

## CR1812F360KE04Z
designator R?  Resistance: 360kΩ  (hidden comment: *)
Resistor, 360kΩ, ±1%, 500mW, 200V, ±100ppm/℃, -55℃~+155℃, SMD 1812; Manufacturer: Uniroyal; Manufacturer Part Number: CR1812F360KE04Z; Supplier 1: LCSC; Supplier Part Number 1: C174782; JLCPCB Part Number: C174782; Power Rating: 500mW; Category: Resistors; Package Size: 1812; JLCPCB Basic Part: Yes; Tolerance: ±1%; Voltage Rating: 200V; Temperature Coefficient: ±100ppm/℃; Temperature Rating: -55℃~+155℃; ComponentLink1Description: Datasheet; ComponentLink1URL: https://wmsc.lcsc.com/wmsc/upload/file/pdf/v2/lcsc/2304140030_Ever-Ohms-Tech-CR1812F360KE04Z_C174782.pdf; ComponentLink2Description: JLCPCB Part URL; ComponentLink2URL: https://jlcpcb.com/partdetail/C174782
pins: 1, 2
1 alternate drawing of the same symbol

## CR1812F360RE04Z
designator R?  Resistance: 360Ω  (hidden comment: *)
Resistor, 360Ω, ±1%, 500mW, 200V, ±100ppm/℃, -55℃~+155℃, SMD 1812; Manufacturer: Uniroyal; Manufacturer Part Number: CR1812F360RE04Z; Supplier 1: LCSC; Supplier Part Number 1: C174726; JLCPCB Part Number: C174726; Power Rating: 500mW; Category: Resistors; Package Size: 1812; JLCPCB Basic Part: Yes; Tolerance: ±1%; Voltage Rating: 200V; Temperature Coefficient: ±100ppm/℃; Temperature Rating: -55℃~+155℃; ComponentLink1Description: Datasheet; ComponentLink1URL: https://wmsc.lcsc.com/wmsc/upload/file/pdf/v2/lcsc/2304140030_Ever-Ohms-Tech-CR1812F360RE04Z_C174726.pdf; ComponentLink2Description: JLCPCB Part URL; ComponentLink2URL: https://jlcpcb.com/partdetail/C174726
pins: 1, 2
1 alternate drawing of the same symbol

## CR1812F390KE04Z
designator R?  Resistance: 390kΩ  (hidden comment: *)
Resistor, 390kΩ, ±1%, 500mW, 200V, ±100ppm/℃, -55℃~+155℃, SMD 1812; Manufacturer: Uniroyal; Manufacturer Part Number: CR1812F390KE04Z; Supplier 1: LCSC; Supplier Part Number 1: C174783; JLCPCB Part Number: C174783; Power Rating: 500mW; Category: Resistors; Package Size: 1812; JLCPCB Basic Part: Yes; Tolerance: ±1%; Voltage Rating: 200V; Temperature Coefficient: ±100ppm/℃; Temperature Rating: -55℃~+155℃; ComponentLink1Description: Datasheet; ComponentLink1URL: https://wmsc.lcsc.com/wmsc/upload/file/pdf/v2/lcsc/2304140030_Ever-Ohms-Tech-CR1812F390KE04Z_C174783.pdf; ComponentLink2Description: JLCPCB Part URL; ComponentLink2URL: https://jlcpcb.com/partdetail/C174783
pins: 1, 2
1 alternate drawing of the same symbol

## CR1812F390RE04Z
designator R?  Resistance: 390Ω  (hidden comment: *)
Resistor, 390Ω, ±1%, 500mW, 200V, ±100ppm/℃, -55℃~+155℃, SMD 1812; Manufacturer: Uniroyal; Manufacturer Part Number: CR1812F390RE04Z; Supplier 1: LCSC; Supplier Part Number 1: C174727; JLCPCB Part Number: C174727; Power Rating: 500mW; Category: Resistors; Package Size: 1812; JLCPCB Basic Part: Yes; Tolerance: ±1%; Voltage Rating: 200V; Temperature Coefficient: ±100ppm/℃; Temperature Rating: -55℃~+155℃; ComponentLink1Description: Datasheet; ComponentLink1URL: https://wmsc.lcsc.com/wmsc/upload/file/pdf/v2/lcsc/2304140030_Ever-Ohms-Tech-CR1812F390RE04Z_C174727.pdf; ComponentLink2Description: JLCPCB Part URL; ComponentLink2URL: https://jlcpcb.com/partdetail/C174727
pins: 1, 2
1 alternate drawing of the same symbol

## CR1812F430KE04Z
designator R?  Resistance: 430kΩ  (hidden comment: *)
Resistor, 430kΩ, ±1%, 500mW, 200V, ±100ppm/℃, -55℃~+155℃, SMD 1812; Manufacturer: Uniroyal; Manufacturer Part Number: CR1812F430KE04Z; Supplier 1: LCSC; Supplier Part Number 1: C174784; JLCPCB Part Number: C174784; Power Rating: 500mW; Category: Resistors; Package Size: 1812; JLCPCB Basic Part: Yes; Tolerance: ±1%; Voltage Rating: 200V; Temperature Coefficient: ±100ppm/℃; Temperature Rating: -55℃~+155℃; ComponentLink1Description: Datasheet; ComponentLink1URL: https://wmsc.lcsc.com/wmsc/upload/file/pdf/v2/lcsc/2304140030_Ever-Ohms-Tech-CR1812F430KE04Z_C174784.pdf; ComponentLink2Description: JLCPCB Part URL; ComponentLink2URL: https://jlcpcb.com/partdetail/C174784
pins: 1, 2
1 alternate drawing of the same symbol

## CR1812F470KE04Z
designator R?  Resistance: 470kΩ  (hidden comment: *)
Resistor, 470kΩ, ±1%, 500mW, 200V, ±100ppm/℃, -55℃~+155℃, SMD 1812; Manufacturer: Uniroyal; Manufacturer Part Number: CR1812F470KE04Z; Supplier 1: LCSC; Supplier Part Number 1: C174785; JLCPCB Part Number: C174785; Power Rating: 500mW; Category: Resistors; Package Size: 1812; JLCPCB Basic Part: Yes; Tolerance: ±1%; Voltage Rating: 200V; Temperature Coefficient: ±100ppm/℃; Temperature Rating: -55℃~+155℃; ComponentLink1Description: Datasheet; ComponentLink1URL: https://wmsc.lcsc.com/wmsc/upload/file/pdf/v2/lcsc/2304140030_Ever-Ohms-Tech-CR1812F470KE04Z_C174785.pdf; ComponentLink2Description: JLCPCB Part URL; ComponentLink2URL: https://jlcpcb.com/partdetail/C174785
pins: 1, 2
1 alternate drawing of the same symbol

## CR1812F510KE04Z
designator R?  Resistance: 510kΩ  (hidden comment: *)
Resistor, 510kΩ, ±1%, 500mW, 200V, ±100ppm/℃, -55℃~+155℃, SMD 1812; Manufacturer: Uniroyal; Manufacturer Part Number: CR1812F510KE04Z; Supplier 1: LCSC; Supplier Part Number 1: C174786; JLCPCB Part Number: C174786; Power Rating: 500mW; Category: Resistors; Package Size: 1812; JLCPCB Basic Part: Yes; Tolerance: ±1%; Voltage Rating: 200V; Temperature Coefficient: ±100ppm/℃; Temperature Rating: -55℃~+155℃; ComponentLink1Description: Datasheet; ComponentLink1URL: https://wmsc.lcsc.com/wmsc/upload/file/pdf/v2/lcsc/2304140030_Ever-Ohms-Tech-CR1812F510KE04Z_C174786.pdf; ComponentLink2Description: JLCPCB Part URL; ComponentLink2URL: https://jlcpcb.com/partdetail/C174786
pins: 1, 2
1 alternate drawing of the same symbol

## CR1812F560KE04Z
designator R?  Resistance: 560kΩ  (hidden comment: *)
Resistor, 560kΩ, ±1%, 500mW, 200V, ±100ppm/℃, -55℃~+155℃, SMD 1812; Manufacturer: Uniroyal; Manufacturer Part Number: CR1812F560KE04Z; Supplier 1: LCSC; Supplier Part Number 1: C174787; JLCPCB Part Number: C174787; Power Rating: 500mW; Category: Resistors; Package Size: 1812; JLCPCB Basic Part: Yes; Tolerance: ±1%; Voltage Rating: 200V; Temperature Coefficient: ±100ppm/℃; Temperature Rating: -55℃~+155℃; ComponentLink1Description: Datasheet; ComponentLink1URL: https://wmsc.lcsc.com/wmsc/upload/file/pdf/v2/lcsc/2304140030_Ever-Ohms-Tech-CR1812F560KE04Z_C174787.pdf; ComponentLink2Description: JLCPCB Part URL; ComponentLink2URL: https://jlcpcb.com/partdetail/C174787
pins: 1, 2
1 alternate drawing of the same symbol

## CR1812F560RE04Z
designator R?  Resistance: 560Ω  (hidden comment: *)
Resistor, 560Ω, ±1%, 500mW, 200V, ±100ppm/℃, -55℃~+155℃, SMD 1812; Manufacturer: Uniroyal; Manufacturer Part Number: CR1812F560RE04Z; Supplier 1: LCSC; Supplier Part Number 1: C174729; JLCPCB Part Number: C174729; Power Rating: 500mW; Category: Resistors; Package Size: 1812; JLCPCB Basic Part: Yes; Tolerance: ±1%; Voltage Rating: 200V; Temperature Coefficient: ±100ppm/℃; Temperature Rating: -55℃~+155℃; ComponentLink1Description: Datasheet; ComponentLink1URL: https://wmsc.lcsc.com/wmsc/upload/file/pdf/v2/lcsc/2304140030_Ever-Ohms-Tech-CR1812F560RE04Z_C174729.pdf; ComponentLink2Description: JLCPCB Part URL; ComponentLink2URL: https://jlcpcb.com/partdetail/C174729
pins: 1, 2
1 alternate drawing of the same symbol

## CR1812F680KE04Z
designator R?  Resistance: 680kΩ  (hidden comment: *)
Resistor, 680kΩ, ±1%, 500mW, 200V, ±100ppm/℃, -55℃~+155℃, SMD 1812; Manufacturer: Uniroyal; Manufacturer Part Number: CR1812F680KE04Z; Supplier 1: LCSC; Supplier Part Number 1: C174789; JLCPCB Part Number: C174789; Power Rating: 500mW; Category: Resistors; Package Size: 1812; JLCPCB Basic Part: Yes; Tolerance: ±1%; Voltage Rating: 200V; Temperature Coefficient: ±100ppm/℃; Temperature Rating: -55℃~+155℃; ComponentLink1Description: Datasheet; ComponentLink1URL: https://wmsc.lcsc.com/wmsc/upload/file/pdf/v2/lcsc/2304140030_Ever-Ohms-Tech-CR1812F680KE04Z_C174789.pdf; ComponentLink2Description: JLCPCB Part URL; ComponentLink2URL: https://jlcpcb.com/partdetail/C174789
pins: 1, 2
1 alternate drawing of the same symbol

## CR1812F680RE04Z
designator R?  Resistance: 680Ω  (hidden comment: *)
Resistor, 680Ω, ±1%, 500mW, 200V, ±100ppm/℃, -55℃~+155℃, SMD 1812; Manufacturer: Uniroyal; Manufacturer Part Number: CR1812F680RE04Z; Supplier 1: LCSC; Supplier Part Number 1: C174730; JLCPCB Part Number: C174730; Power Rating: 500mW; Category: Resistors; Package Size: 1812; JLCPCB Basic Part: Yes; Tolerance: ±1%; Voltage Rating: 200V; Temperature Coefficient: ±100ppm/℃; Temperature Rating: -55℃~+155℃; ComponentLink1Description: Datasheet; ComponentLink1URL: https://wmsc.lcsc.com/wmsc/upload/file/pdf/v2/lcsc/2304140030_Ever-Ohms-Tech-CR1812F680RE04Z_C174730.pdf; ComponentLink2Description: JLCPCB Part URL; ComponentLink2URL: https://jlcpcb.com/partdetail/C174730
pins: 1, 2
1 alternate drawing of the same symbol

## CR1812F732RE04Z
designator R?  Resistance: 732Ω  (hidden comment: *)
Resistor, 732Ω, ±1%, 500mW, 200V, ±100ppm/℃, -55℃~+155℃, SMD 1812; Manufacturer: Uniroyal; Manufacturer Part Number: CR1812F732RE04Z; Supplier 1: LCSC; Supplier Part Number 1: C174731; JLCPCB Part Number: C174731; Power Rating: 500mW; Category: Resistors; Package Size: 1812; JLCPCB Basic Part: Yes; Tolerance: ±1%; Voltage Rating: 200V; Temperature Coefficient: ±100ppm/℃; Temperature Rating: -55℃~+155℃; ComponentLink1Description: Datasheet; ComponentLink1URL: https://wmsc.lcsc.com/wmsc/upload/file/pdf/v2/lcsc/2304140030_Ever-Ohms-Tech-CR1812F732RE04Z_C174731.pdf; ComponentLink2Description: JLCPCB Part URL; ComponentLink2URL: https://jlcpcb.com/partdetail/C174731
pins: 1, 2
1 alternate drawing of the same symbol

## CR1812F820KE04Z
designator R?  Resistance: 820kΩ  (hidden comment: *)
Resistor, 820kΩ, ±1%, 500mW, 200V, ±100ppm/℃, -55℃~+155℃, SMD 1812; Manufacturer: Uniroyal; Manufacturer Part Number: CR1812F820KE04Z; Supplier 1: LCSC; Supplier Part Number 1: C174790; JLCPCB Part Number: C174790; Power Rating: 500mW; Category: Resistors; Package Size: 1812; JLCPCB Basic Part: Yes; Tolerance: ±1%; Voltage Rating: 200V; Temperature Coefficient: ±100ppm/℃; Temperature Rating: -55℃~+155℃; ComponentLink1Description: Datasheet; ComponentLink1URL: https://wmsc.lcsc.com/wmsc/upload/file/pdf/v2/lcsc/2304140030_Ever-Ohms-Tech-CR1812F820KE04Z_C174790.pdf; ComponentLink2Description: JLCPCB Part URL; ComponentLink2URL: https://jlcpcb.com/partdetail/C174790
pins: 1, 2
1 alternate drawing of the same symbol

## CR1812F820RE04Z
designator R?  Resistance: 820Ω  (hidden comment: *)
Resistor, 820Ω, ±1%, 500mW, 200V, ±100ppm/℃, -55℃~+155℃, SMD 1812; Manufacturer: Uniroyal; Manufacturer Part Number: CR1812F820RE04Z; Supplier 1: LCSC; Supplier Part Number 1: C174733; JLCPCB Part Number: C174733; Power Rating: 500mW; Category: Resistors; Package Size: 1812; JLCPCB Basic Part: Yes; Tolerance: ±1%; Voltage Rating: 200V; Temperature Coefficient: ±100ppm/℃; Temperature Rating: -55℃~+155℃; ComponentLink1Description: Datasheet; ComponentLink1URL: https://wmsc.lcsc.com/wmsc/upload/file/pdf/v2/lcsc/2304140030_Ever-Ohms-Tech-CR1812F820RE04Z_C174733.pdf; ComponentLink2Description: JLCPCB Part URL; ComponentLink2URL: https://jlcpcb.com/partdetail/C174733
pins: 1, 2
1 alternate drawing of the same symbol

## CR1812FR200E04R
designator R?  Resistance: 200mΩ  (hidden comment: *)
Resistor, 200mΩ, ±1%, 500mW, 200V, -55℃~+155℃, SMD 1812; Manufacturer: Uniroyal; Manufacturer Part Number: CR1812FR200E04R; Supplier 1: LCSC; Supplier Part Number 1: C153313; JLCPCB Part Number: C153313; Power Rating: 500mW; Category: Resistors; Package Size: 1812; JLCPCB Basic Part: Yes; Tolerance: ±1%; Voltage Rating: 200V; Temperature Rating: -55℃~+155℃; ComponentLink1Description: Datasheet; ComponentLink1URL: https://wmsc.lcsc.com/wmsc/upload/file/pdf/v2/lcsc/2304140030_Ever-Ohms-Tech-CR1812FR200E04R_C153313.pdf; ComponentLink2Description: JLCPCB Part URL; ComponentLink2URL: https://jlcpcb.com/partdetail/C153313
pins: 1, 2
1 alternate drawing of the same symbol

## CR1812J1K00E04Z
designator R?  Resistance: 1kΩ  (hidden comment: *)
Resistor, 1kΩ, ±5%, 500mW, 200V, ±100ppm/℃, -55℃~+155℃, SMD 1812; Manufacturer: Uniroyal; Manufacturer Part Number: CR1812J1K00E04Z; Supplier 1: LCSC; Supplier Part Number 1: C174857; JLCPCB Part Number: C174857; Power Rating: 500mW; Category: Resistors; Package Size: 1812; JLCPCB Basic Part: Yes; Tolerance: ±5%; Voltage Rating: 200V; Temperature Coefficient: ±100ppm/℃; Temperature Rating: -55℃~+155℃; ComponentLink1Description: Datasheet; ComponentLink1URL: https://wmsc.lcsc.com/wmsc/upload/file/pdf/v2/lcsc/2304140030_Ever-Ohms-Tech-CR1812J1K00E04Z_C174857.pdf; ComponentLink2Description: JLCPCB Part URL; ComponentLink2URL: https://jlcpcb.com/partdetail/C174857
pins: 1, 2
1 alternate drawing of the same symbol

## CR1812J1K10E04Z
designator R?  Resistance: 1.1kΩ  (hidden comment: *)
Resistor, 1.1kΩ, ±5%, 500mW, 200V, ±100ppm/℃, -55℃~+155℃, SMD 1812; Manufacturer: Uniroyal; Manufacturer Part Number: CR1812J1K10E04Z; Supplier 1: LCSC; Supplier Part Number 1: C174859; JLCPCB Part Number: C174859; Power Rating: 500mW; Category: Resistors; Package Size: 1812; JLCPCB Basic Part: Yes; Tolerance: ±5%; Voltage Rating: 200V; Temperature Coefficient: ±100ppm/℃; Temperature Rating: -55℃~+155℃; ComponentLink1Description: Datasheet; ComponentLink1URL: https://wmsc.lcsc.com/wmsc/upload/file/pdf/v2/lcsc/2304140030_Ever-Ohms-Tech-CR1812J1K10E04Z_C174859.pdf; ComponentLink2Description: JLCPCB Part URL; ComponentLink2URL: https://jlcpcb.com/partdetail/C174859
pins: 1, 2
1 alternate drawing of the same symbol

## CR1812J1K20E04Z
designator R?  Resistance: 1.2kΩ  (hidden comment: *)
Resistor, 1.2kΩ, ±5%, 500mW, 200V, ±100ppm/℃, -55℃~+155℃, SMD 1812; Manufacturer: Uniroyal; Manufacturer Part Number: CR1812J1K20E04Z; Supplier 1: LCSC; Supplier Part Number 1: C174860; JLCPCB Part Number: C174860; Power Rating: 500mW; Category: Resistors; Package Size: 1812; JLCPCB Basic Part: Yes; Tolerance: ±5%; Voltage Rating: 200V; Temperature Coefficient: ±100ppm/℃; Temperature Rating: -55℃~+155℃; ComponentLink1Description: Datasheet; ComponentLink1URL: https://wmsc.lcsc.com/wmsc/upload/file/pdf/v2/lcsc/2304140030_Ever-Ohms-Tech-CR1812J1K20E04Z_C174860.pdf; ComponentLink2Description: JLCPCB Part URL; ComponentLink2URL: https://jlcpcb.com/partdetail/C174860
pins: 1, 2
1 alternate drawing of the same symbol

## CR1812J1K30E04Z
designator R?  Resistance: 1.3kΩ  (hidden comment: *)
Resistor, 1.3kΩ, ±5%, 500mW, 200V, ±100ppm/℃, -55℃~+155℃, SMD 1812; Manufacturer: Uniroyal; Manufacturer Part Number: CR1812J1K30E04Z; Supplier 1: LCSC; Supplier Part Number 1: C174861; JLCPCB Part Number: C174861; Power Rating: 500mW; Category: Resistors; Package Size: 1812; JLCPCB Basic Part: Yes; Tolerance: ±5%; Voltage Rating: 200V; Temperature Coefficient: ±100ppm/℃; Temperature Rating: -55℃~+155℃; ComponentLink1Description: Datasheet; ComponentLink1URL: https://wmsc.lcsc.com/wmsc/upload/file/pdf/v2/lcsc/2304140030_Ever-Ohms-Tech-CR1812J1K30E04Z_C174861.pdf; ComponentLink2Description: JLCPCB Part URL; ComponentLink2URL: https://jlcpcb.com/partdetail/C174861
pins: 1, 2
1 alternate drawing of the same symbol

## CR1812J1K50E04Z
designator R?  Resistance: 1.5kΩ  (hidden comment: *)
Resistor, 1.5kΩ, ±5%, 500mW, 200V, ±100ppm/℃, -55℃~+155℃, SMD 1812; Manufacturer: Uniroyal; Manufacturer Part Number: CR1812J1K50E04Z; Supplier 1: LCSC; Supplier Part Number 1: C174862; JLCPCB Part Number: C174862; Power Rating: 500mW; Category: Resistors; Package Size: 1812; JLCPCB Basic Part: Yes; Tolerance: ±5%; Voltage Rating: 200V; Temperature Coefficient: ±100ppm/℃; Temperature Rating: -55℃~+155℃; ComponentLink1Description: Datasheet; ComponentLink1URL: https://wmsc.lcsc.com/wmsc/upload/file/pdf/v2/lcsc/2304140030_Ever-Ohms-Tech-CR1812J1K50E04Z_C174862.pdf; ComponentLink2Description: JLCPCB Part URL; ComponentLink2URL: https://jlcpcb.com/partdetail/C174862
pins: 1, 2
1 alternate drawing of the same symbol

## CR1812J1K80E04Z
designator R?  Resistance: 1.8kΩ  (hidden comment: *)
Resistor, 1.8kΩ, ±5%, 500mW, 200V, ±100ppm/℃, -55℃~+155℃, SMD 1812; Manufacturer: Uniroyal; Manufacturer Part Number: CR1812J1K80E04Z; Supplier 1: LCSC; Supplier Part Number 1: C174864; JLCPCB Part Number: C174864; Power Rating: 500mW; Category: Resistors; Package Size: 1812; JLCPCB Basic Part: Yes; Tolerance: ±5%; Voltage Rating: 200V; Temperature Coefficient: ±100ppm/℃; Temperature Rating: -55℃~+155℃; ComponentLink1Description: Datasheet; ComponentLink1URL: https://wmsc.lcsc.com/wmsc/upload/file/pdf/v2/lcsc/2304140030_Ever-Ohms-Tech-CR1812J1K80E04Z_C174864.pdf; ComponentLink2Description: JLCPCB Part URL; ComponentLink2URL: https://jlcpcb.com/partdetail/C174864
pins: 1, 2
1 alternate drawing of the same symbol

## CR1812J1M00E04Z
designator R?  Resistance: 1MΩ  (hidden comment: *)
Resistor, 1MΩ, ±5%, 500mW, 200V, ±100ppm/℃, -55℃~+155℃, SMD 1812; Manufacturer: Uniroyal; Manufacturer Part Number: CR1812J1M00E04Z; Supplier 1: LCSC; Supplier Part Number 1: C174912; JLCPCB Part Number: C174912; Power Rating: 500mW; Category: Resistors; Package Size: 1812; JLCPCB Basic Part: Yes; Tolerance: ±5%; Voltage Rating: 200V; Temperature Coefficient: ±100ppm/℃; Temperature Rating: -55℃~+155℃; ComponentLink1Description: Datasheet; ComponentLink1URL: https://wmsc.lcsc.com/wmsc/upload/file/pdf/v2/lcsc/2304140030_Ever-Ohms-Tech-CR1812J1M00E04Z_C174912.pdf; ComponentLink2Description: JLCPCB Part URL; ComponentLink2URL: https://jlcpcb.com/partdetail/C174912
pins: 1, 2
1 alternate drawing of the same symbol